# EAGLE library part PIN1X13_254 (library Pinheader)
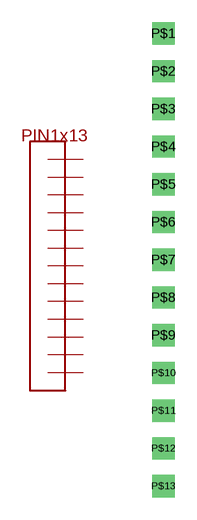
[diagram p2: symbol with the pads of PIN1X13_254; footprint PIN1X13_254]

Designator prefix -

## PIN1X13_254  [PIN1X13_254]
P$1  P$1
P$2  P$2
P$3  P$3
P$4  P$4
P$5  P$5
P$6  P$6
P$7  P$7
P$8  P$8
P$9  P$9
P$10  P$10
P$11  P$11
P$12  P$12
P$13  P$13

## Footprint PIN1X13_254 (pad centres in mm)
drill 1 square: P$1 0,13.97; P$2 0,11.43; P$3 0,8.89; P$4 0,6.35; P$5 0,3.81; P$6 0,1.27; P$7 0,-1.27; P$8 0,-3.81; P$9 0,-6.35; P$10 0,-8.89; P$11 0,-11.43; P$12 0,-13.97; P$13 0,-16.51